# Altium integrated library IMUBoard.IntLib: 8 symbols
Pins are listed as number, name and electrical type; pins without a type are passive.

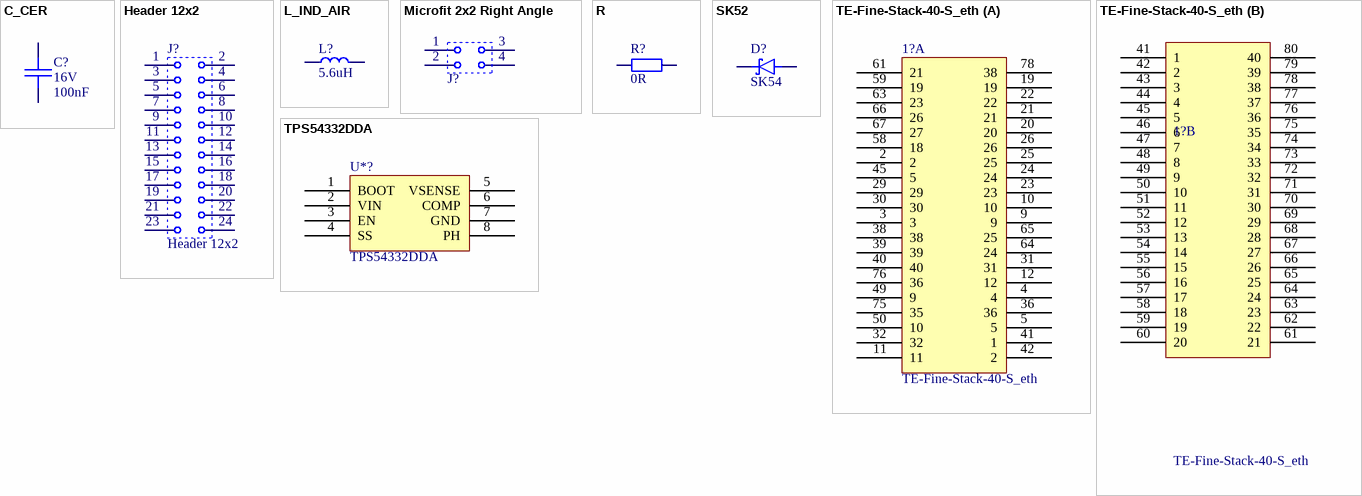
[diagram p0: symbols C_CER to TPS54332DDA]

## C_CER
designator C?, comment value 100nF  Voltage: 16V  (hidden comment: 100n)
Ceramic Capacitor
footprint 0805
footprint 0603
footprint 1206_C
footprint 1210_C
footprint CAP0603_M
footprint CAP0805_M
pins: 1, 2

## Header 12x2
designator J?
footprint CLM-112-02
pins: 1, 2, 3, 4, 5, 6, 7, 8, 9, 10, 11, 12, 13, 14, 15, 16, 17, 18, 19, 20, 21, 22, 23, 24

## L_IND_AIR
designator L?, comment 5.6uH
Air Core Inductor
footprint SDR1307
pins: 1, 2

## Microfit 2x2 Right Angle
designator J?, comment Molex Microfit  (value not drawn)
footprint MICROFIT 2x2 Right Angle (Molex Right Angle 3.00mm pitch Micro-Fit 3.0 Wire-to-Board Header)
pins: 1, 2, 3, 4

## R
designator R?, comment 0R
Resistor
footprint 0805_R
footprint 0603_R
footprint 1206_R
footprint _R_AXIAL_1W_D4L10 (Resistor; 2 Leads; D4mm, L10mm)
footprint _R_CERAMIC_5W
footprint _R_CERAMIC_5W_V (Vertical)
footprint _R_BCS80R001F_8W (8W SMD Resistor)
footprint RES0402_M (Chip Resistor, 2-Leads, Body 1.0x0.5mm, IPC Medium Density)
footprint RES0603_M (Chip Resistor, 2-Leads, Body 1.6x0.8mm, IPC Medium Density)
footprint RES0805_M (Chip Resistor, 2-Leads, Body 2.0x1.3mm, IPC Medium Density)
footprint RES1206_M (Chip Resistor, 2-Leads, Body 3.1x1.6mm, IPC Medium Density)
footprint _R_WSR5Rxxxx (Footprint not found)
footprint 402_R (Chip Resistor, 2-Leads, Body 1,00x0,50mm, IPC Medium Density)
footprint 0603_R HighDensity
footprint 0805_R HighDensity
pins: 1, 2

## SK52
designator D?, comment SK54
Schottky Diode 2A 100V; Supplier: TME; URL: http://www.tme.eu/pl/details/sk210/diody-schottky-smd/dc-components/#; Symbol: SK54
footprint SMC/DO-214AB (7.1x6.2mm max)
pins: A 2, K 1

## TE-Fine-Stack-40-S_eth
designator 1?
footprint TE-FINE-STACK-40-S-Eth
footprint TE-FINE-STACK-40-P-Eth
part A pins: 2, 3, 4, 5, 9, 10, 11, 12, 19, 20, 21, 22, 23, 24, 25, 26, 29, 30, 31, 32, 36, 38, 39, 40, 41 1, 42 2, 45 5, 49 9, 50 10, 58 18, 59 19, 61 21, 63 23, 64 24, 65 25, 66 26, 67 27, 75 35, 76 36, 78 38
part B pins: 41 1, 42 2, 43 3, 44 4, 45 5, 46 6, 47 7, 48 8, 49 9, 50 10, 51 11, 52 12, 53 13, 54 14, 55 15, 56 16, 57 17, 58 18, 59 19, 60 20, 61 21, 62 22, 63 23, 64 24, 65 25, 66 26, 67 27, 68 28, 69 29, 70 30, 71 31, 72 32, 73 33, 74 34, 75 35, 76 36, 77 37, 78 38, 79 39, 80 40

## TPS54332DDA
designator U*?
footprint PDSO127P600X170_HS-9N (PDSO, 8-Leads, Body 4,90x3,90mm, Pitch 1,27mm, Thermal Pad 3,10x2,40mm, IPC Medium Density)
pins: 1 BOOT, 2 VIN, 3 EN, 4 SS, 5 VSENSE, 6 COMP, 7 GND, 8 PH